# EAGLE library part DS3231 (library DS3231)
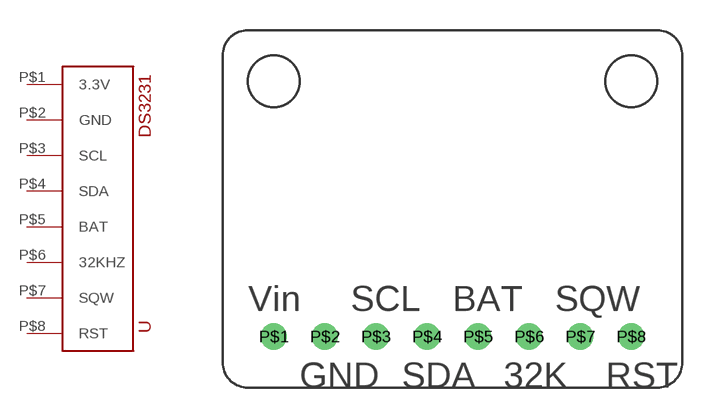
[diagram p0: symbol with the pads of DS3231; footprint DS3231]

Designator prefix -

## DS3231  [DS3231]
P$1  3.3V
P$2  GND
P$3  SCL
P$4  SDA
P$5  BAT
P$6  32KHZ
P$7  SQW
P$8  RST

## Footprint DS3231 (pad centres in mm)
drill 0.8: P$1 2.54,2.54; P$2 5.08,2.54; P$3 7.62,2.54; P$4 10.16,2.54; P$5 12.7,2.54; P$6 15.24,2.54; P$7 17.78,2.54; P$8 20.32,2.54